# EAGLE library part N25Q016A11 (library ecad)
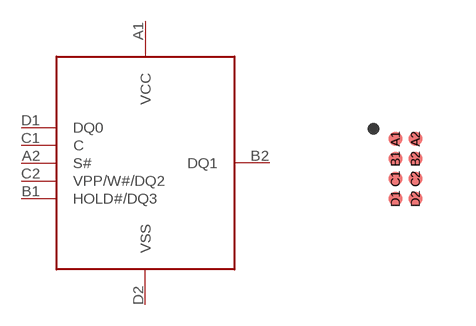
[diagram p0: symbol with the pads of 8_BUMP_XFCSP; footprint 8_BUMP_XFCSP]

Designator prefix U

## N25Q016A11  [8_BUMP_XFCSP]
A1  VCC  pas
A2  S#  pas
B1  HOLD#/DQ3  pas
B2  DQ1  pas
C1  C  pas
C2  VPP/W#/DQ2  pas
D1  DQ0  pas
D2  VSS  pas

## Footprint 8_BUMP_XFCSP (pad centres in mm)
smd 0.35 x 0.35: A1 -0.25,0.75; A2 0.25,0.75; B1 -0.25,0.25; B2 0.25,0.25; C1 -0.25,-0.25; C2 0.25,-0.25; D1 -0.25,-0.75; D2 0.25,-0.75